# Altium integrated library 3362P-1-103TLF.IntLib: 1 symbol
Pins are listed as number, name and electrical type; pins without a type are passive.

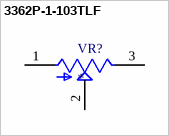
[diagram p0: symbol 3362P-1-103TLF]

## 3362P-1-103TLF
designator VR?
10 kOhms 0.5W, 1/2W PC Pins Through Hole Trimmer Potentiometer Cermet 1 Turn Top Finger Adjustment; MP: 3362P-1-103TLF; MF: Bourns; SnapEDA_Link: https://www.snapeda.com/parts/3362P-1-103TLF/Bourns/view-part/282422/?ref=snap; Package: 3362P-1-T Bourns Inc.; Check_prices: https://www.snapeda.com/parts/3362P-1-103TLF/Bourns/view-part/282422/?ref=eda; Value: *; Purchase-URL: https://pricing.snapeda.com/search/part/3362P-1-103TLF/?ref=eda; Digi-Key_Part_Number: 3362P-103TLF-ND
footprint TRIM_3362P-1-103TLF
pins: 1 CCW, 2 WIPER, 3 CW